# Altium footprint library 400236.PcbLib: 96 footprints (part 4 of 6)
Each footprint in its own frame and in the unit in brackets; x right, y up, seen from the top. Pads: shape width x height; smd on the part's side, far side on the other; paste and mask are expansions set on the pad; w line width, h text height; cw(c..) or ccw(c..) is an arc to the next point about the centre after c.
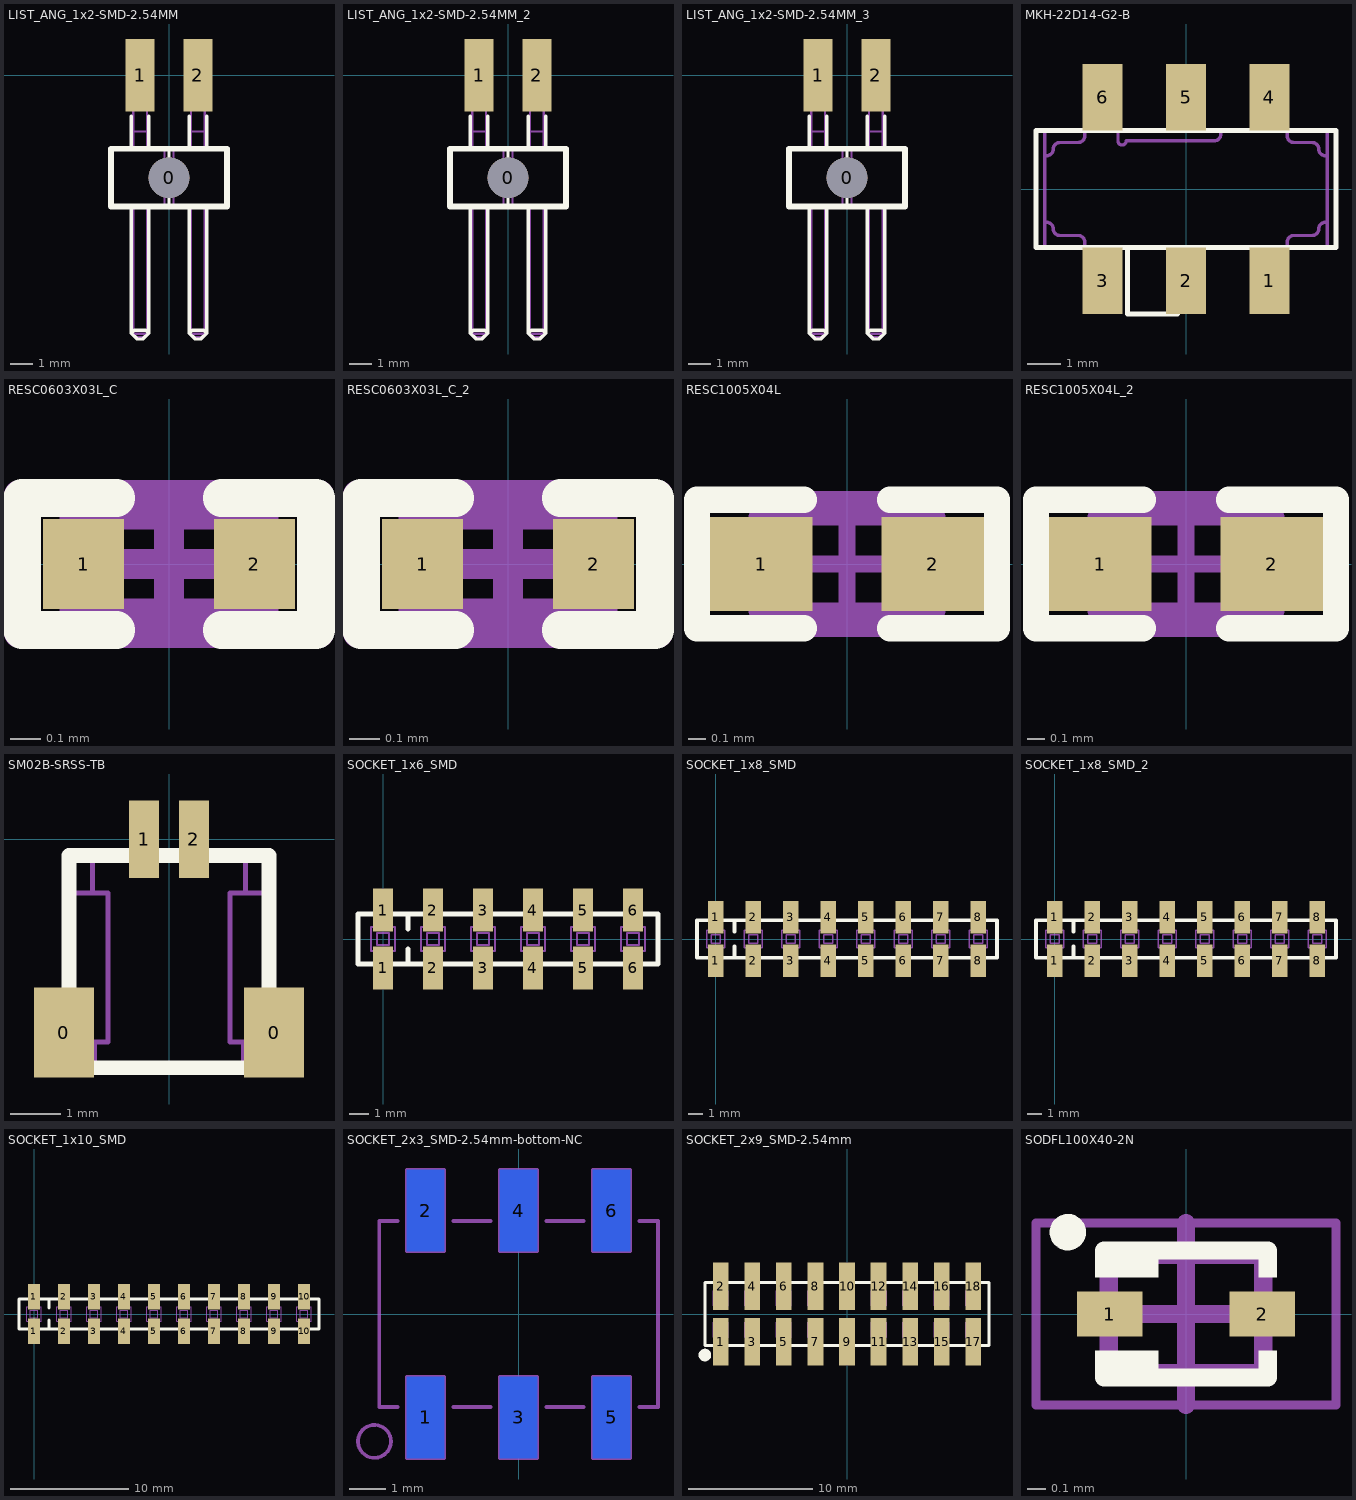
[diagram p3: the footprints below, top view; thin cyan lines are the x and y axes]

## LIST_ANG_1x2-SMD-2.54MM [mm]
pads (3):
  round 1.78 hole 1.78 unplated: 0(0,-4.496)
  rect 1.27x3.18 smd: 1(-1.27,0) 2(1.27,0)
Top Overlay:
  lines w0.15: -1.651,-5.766 -1.651,-11.324 ; -1.651,-3.226 -1.651,-1.8 ; -0.889,-5.766 -0.889,-11.324 ; -0.889,-3.226 -0.889,-1.8 ; 0,-5.766 0,-3.226 ; 0.889,-5.766 0.889,-11.324 ; 0.889,-3.226 0.889,-1.8 ; 1.651,-5.766 1.651,-11.324 ; 1.651,-3.226 1.651,-1.8 ; -1.651,-11.324 -1.524,-11.197 -1.016,-11.197 -0.889,-11.324 ; -1.651,-11.324 -1.397,-11.578 -1.143,-11.578 -0.889,-11.324 ; 0.889,-11.324 1.016,-11.197 1.524,-11.197 1.651,-11.324 ; 0.889,-11.324 1.143,-11.578 1.397,-11.578 1.651,-11.324
  lines w0.254: -2.54,-5.766 2.54,-5.766 2.54,-3.226 -2.54,-3.226 -2.54,-5.766
Mechanical 7:
  lines w0.1: -1.57,-5.766 -1.57,-11.347 ; -1.57,-3.226 -1.57,0.85 ; -1.57,-2.466 -0.97,-2.466 ; -1.57,-0.464 -0.97,-0.464 ; -0.97,-5.766 -0.97,-11.347 ; -0.97,-3.226 -0.97,0.85 ; -0.2,-5.766 -0.2,-3.226 ; 0.2,-5.766 0.2,-3.226 ; 0.97,-5.766 0.97,-11.347 ; 0.97,-3.226 0.97,0.85 ; 0.97,-2.466 1.57,-2.466 ; 0.97,-0.464 1.57,-0.464 ; 1.57,-5.766 1.57,-11.347 ; 1.57,-3.226 1.57,0.85 ; -1.57,-11.347 -1.42,-11.497 -1.12,-11.497 -0.97,-11.347 ; -1.57,-11.347 -0.97,-11.347 ; -1.57,0.85 -1.42,1 -1.12,1 -0.97,0.85 ; -1.57,0.85 -0.97,0.85 ; 0.97,-11.347 1.12,-11.497 1.42,-11.497 1.57,-11.347 ; 0.97,-11.347 1.57,-11.347 ; 0.97,0.85 1.12,1 1.42,1 1.57,0.85 ; 0.97,0.85 1.57,0.85 ; -2.54,-5.766 2.54,-5.766 2.54,-3.226 -2.54,-3.226 -2.54,-5.766
  text ".Designator" at -1.162,-4.852 h0.3
3D body "Samtec-TSM-102-01-L-SH-A.step": height 3.03, standoff -1.41, extent -2.56,-11.605 2.52,1.349

## LIST_ANG_1x2-SMD-2.54MM_2 [mm]
pads (3):
  round 1.78 hole 1.78 unplated: 0(0,-4.496)
  rect 1.27x3.18 smd: 1(-1.27,0) 2(1.27,0)
Top Overlay:
  lines w0.15: -1.651,-5.766 -1.651,-11.324 ; -1.651,-3.226 -1.651,-1.8 ; -0.889,-5.766 -0.889,-11.324 ; -0.889,-3.226 -0.889,-1.8 ; 0,-5.766 0,-3.226 ; 0.889,-5.766 0.889,-11.324 ; 0.889,-3.226 0.889,-1.8 ; 1.651,-5.766 1.651,-11.324 ; 1.651,-3.226 1.651,-1.8 ; -1.651,-11.324 -1.524,-11.197 -1.016,-11.197 -0.889,-11.324 ; -1.651,-11.324 -1.397,-11.578 -1.143,-11.578 -0.889,-11.324 ; 0.889,-11.324 1.016,-11.197 1.524,-11.197 1.651,-11.324 ; 0.889,-11.324 1.143,-11.578 1.397,-11.578 1.651,-11.324
  lines w0.254: -2.54,-5.766 2.54,-5.766 2.54,-3.226 -2.54,-3.226 -2.54,-5.766
Mechanical 7:
  lines w0.1: -1.57,-5.766 -1.57,-11.347 ; -1.57,-3.226 -1.57,0.85 ; -1.57,-2.466 -0.97,-2.466 ; -1.57,-0.464 -0.97,-0.464 ; -0.97,-5.766 -0.97,-11.347 ; -0.97,-3.226 -0.97,0.85 ; -0.2,-5.766 -0.2,-3.226 ; 0.2,-5.766 0.2,-3.226 ; 0.97,-5.766 0.97,-11.347 ; 0.97,-3.226 0.97,0.85 ; 0.97,-2.466 1.57,-2.466 ; 0.97,-0.464 1.57,-0.464 ; 1.57,-5.766 1.57,-11.347 ; 1.57,-3.226 1.57,0.85 ; -1.57,-11.347 -1.42,-11.497 -1.12,-11.497 -0.97,-11.347 ; -1.57,-11.347 -0.97,-11.347 ; -1.57,0.85 -1.42,1 -1.12,1 -0.97,0.85 ; -1.57,0.85 -0.97,0.85 ; 0.97,-11.347 1.12,-11.497 1.42,-11.497 1.57,-11.347 ; 0.97,-11.347 1.57,-11.347 ; 0.97,0.85 1.12,1 1.42,1 1.57,0.85 ; 0.97,0.85 1.57,0.85 ; -2.54,-5.766 2.54,-5.766 2.54,-3.226 -2.54,-3.226 -2.54,-5.766
  text ".Designator" at -1.162,-4.852 h0.3
3D body "Samtec-TSM-102-01-L-SH-A.step": height 3.03, standoff -1.41, extent -2.56,-11.605 2.52,1.349

## LIST_ANG_1x2-SMD-2.54MM_3 [mm]
pads (3):
  round 1.78 hole 1.78 unplated: 0(0,-4.496)
  rect 1.27x3.18 smd: 1(-1.27,0) 2(1.27,0)
Top Overlay:
  lines w0.15: -1.651,-5.766 -1.651,-11.324 ; -1.651,-3.226 -1.651,-1.8 ; -0.889,-5.766 -0.889,-11.324 ; -0.889,-3.226 -0.889,-1.8 ; 0,-5.766 0,-3.226 ; 0.889,-5.766 0.889,-11.324 ; 0.889,-3.226 0.889,-1.8 ; 1.651,-5.766 1.651,-11.324 ; 1.651,-3.226 1.651,-1.8 ; -1.651,-11.324 -1.524,-11.197 -1.016,-11.197 -0.889,-11.324 ; -1.651,-11.324 -1.397,-11.578 -1.143,-11.578 -0.889,-11.324 ; 0.889,-11.324 1.016,-11.197 1.524,-11.197 1.651,-11.324 ; 0.889,-11.324 1.143,-11.578 1.397,-11.578 1.651,-11.324
  lines w0.254: -2.54,-5.766 2.54,-5.766 2.54,-3.226 -2.54,-3.226 -2.54,-5.766
Mechanical 7:
  lines w0.1: -1.57,-5.766 -1.57,-11.347 ; -1.57,-3.226 -1.57,0.85 ; -1.57,-2.466 -0.97,-2.466 ; -1.57,-0.464 -0.97,-0.464 ; -0.97,-5.766 -0.97,-11.347 ; -0.97,-3.226 -0.97,0.85 ; -0.2,-5.766 -0.2,-3.226 ; 0.2,-5.766 0.2,-3.226 ; 0.97,-5.766 0.97,-11.347 ; 0.97,-3.226 0.97,0.85 ; 0.97,-2.466 1.57,-2.466 ; 0.97,-0.464 1.57,-0.464 ; 1.57,-5.766 1.57,-11.347 ; 1.57,-3.226 1.57,0.85 ; -1.57,-11.347 -1.42,-11.497 -1.12,-11.497 -0.97,-11.347 ; -1.57,-11.347 -0.97,-11.347 ; -1.57,0.85 -1.42,1 -1.12,1 -0.97,0.85 ; -1.57,0.85 -0.97,0.85 ; 0.97,-11.347 1.12,-11.497 1.42,-11.497 1.57,-11.347 ; 0.97,-11.347 1.57,-11.347 ; 0.97,0.85 1.12,1 1.42,1 1.57,0.85 ; 0.97,0.85 1.57,0.85 ; -2.54,-5.766 2.54,-5.766 2.54,-3.226 -2.54,-3.226 -2.54,-5.766
  text ".Designator" at -1.162,-4.852 h0.3
3D body "Samtec-TSM-102-01-L-SH-A.step": height 3.03, standoff -1.41, extent -2.56,-11.605 2.52,1.349

## MKH-22D14-G2-B [mm]
pads (6):
  rect 1.2x2 smd: 1(2.5,-2.75) 2(0,-2.75) 3(-2.5,-2.75) 4(2.5,2.75) 5(0,2.75) 6(-2.5,2.75)
Top Overlay:
  lines w0.152: -1.75,-1.75 -1.75,-3.75 -0.25,-3.75 -0.25,-1.75 ; -4.5,-1.75 4.5,-1.75 4.5,1.75 -4.5,1.75 -4.5,-1.75
Mechanical 7:
  lines w0.1: -4.233,-0.996 -4.183,-0.996 cw(c-4.185,-1.197) -3.984,-1.195 -3.984,-1.205 ccw(c-3.785,-1.195) -3.786,-1.394 ; -4.233,0.996 -4.183,0.996 ccw(c-4.185,1.197) -3.984,1.195 -3.984,1.205 cw(c-3.785,1.195) -3.786,1.395 ; -3.785,-1.394 -3.237,-1.394 cw(c-3.237,-1.594) -3.038,-1.593 -3.038,-1.743 ; -3.785,1.395 -3.237,1.395 ccw(c-3.237,1.594) -3.038,1.594 -3.038,1.743 ; -2.789,-1.743 -2.789,-2.49 -2.191,-2.49 -2.191,-1.743 ; -2.789,1.743 -2.789,2.49 -2.191,2.49 -2.191,1.743 ; -2.042,1.445 ccw(c-1.917,1.445) -1.793,1.444 0.846,1.445 ccw(c0.846,1.643) 1.045,1.644 1.045,1.743 ; -2.042,1.445 -2.042,1.743 ; -1.743,-1.743 -1.743,-3.735 -0.249,-3.735 -0.249,-1.743 ; -0.299,1.743 -0.299,2.49 0.299,2.49 0.299,1.743 ; -0.249,-2.49 0.299,-2.49 0.299,-1.743 ; 2.191,-1.743 2.191,-2.49 2.789,-2.49 2.789,-1.743 ; 2.191,1.743 2.191,2.49 2.789,2.49 2.789,1.743 ; 3.037,-1.743 3.037,-1.593 cw(c3.237,-1.594) 3.236,-1.394 3.784,-1.394 ccw(c3.784,-1.195) 3.983,-1.205 3.984,-1.195 cw(c4.185,-1.197) 4.183,-0.996 4.233,-0.996 ; 3.037,1.743 3.037,1.594 ccw(c3.237,1.594) 3.236,1.395 3.784,1.395 cw(c3.784,1.195) 3.983,1.205 3.984,1.195 ccw(c4.185,1.197) 4.183,0.996 4.233,0.996 ; -4.233,-1.743 -4.233,1.743 4.233,1.743 4.233,-1.743 -4.233,-1.743
  text ".Designator" at -0.408,-0.206 h0.3
3D body "CL-SB-22B-11T.stp": height 3.5, standoff 0, extent -4.25,-3.75 4.25,2.5

## RESC0603X03L_C [mm]
pads (2):
  rect 0.27x0.3 smd: 1(-0.285,0) 2(0.285,0)
Top Overlay:
  lines w0.125: -0.175,-0.22 -0.49,-0.22 -0.49,0.22 -0.175,0.22 ; 0.175,-0.22 0.49,-0.22 0.49,0.22 0.175,0.22
Mechanical 7:
  lines w0.1: -0.315,-0.165 -0.315,0.165 0.315,0.165 0.315,-0.165 -0.315,-0.165
  text ".Designator" at -0.306,0.268 h0.3
Mechanical 15:
  lines w0.1: -0.165,0 0.165,0 ; 0,-0.165 0,0.165 ; -0.5,-0.23 -0.5,0.23 0.5,0.23 0.5,-0.23 -0.5,-0.23
3D body "User Library-res0201-1.step": height 0.23, standoff 0, extent -0.3,-0.15 0.3,0.15

## RESC0603X03L_C_2 [mm]
pads (2):
  rect 0.27x0.3 smd: 1(-0.285,0) 2(0.285,0)
Top Overlay:
  lines w0.125: -0.175,-0.22 -0.49,-0.22 -0.49,0.22 -0.175,0.22 ; 0.175,-0.22 0.49,-0.22 0.49,0.22 0.175,0.22
Mechanical 7:
  lines w0.1: -0.315,-0.165 0.315,-0.165 0.315,0.165 -0.315,0.165 -0.315,-0.165
  text ".Designator" at -0.306,0.268 h0.3
Mechanical 15:
  lines w0.1: -0.165,0 0.165,0 ; 0,-0.165 0,0.165 ; -0.5,-0.23 -0.5,0.23 0.5,0.23 0.5,-0.23 -0.5,-0.23
3D body "User Library-res0201-1.step": height 0.23, standoff 0, extent -0.3,-0.15 0.3,0.15

## RESC1005X04L [mm]
pads (2):
  rect 0.6x0.55 smd: 1(-0.5,0) 2(0.5,0)
Top Overlay:
  lines w0.152: -0.25,-0.375 -0.875,-0.375 -0.875,0.375 -0.25,0.375 ; 0.25,-0.375 0.875,-0.375 0.875,0.375 0.25,0.375
Mechanical 7:
  lines w0.1: -0.525,-0.275 0.525,-0.275 0.525,0.275 -0.525,0.275 -0.525,-0.275
  text ".Designator" at -0.349,-0.157 h0.3
Mechanical 15:
  lines w0.1: -0.275,0 0.275,0 ; 0,-0.275 0,0.275 ; -0.875,-0.375 -0.875,0.375 0.875,0.375 0.875,-0.375 -0.875,-0.375
3D body "User Library-res0402-1.step": height 0.3, standoff 0, extent -0.5,-0.25 0.5,0.25

## RESC1005X04L_2 [mm]
pads (2):
  rect 0.6x0.55 smd: 1(-0.5,0) 2(0.5,0)
Top Overlay:
  lines w0.152: -0.25,-0.375 -0.875,-0.375 -0.875,0.375 -0.25,0.375 ; 0.25,-0.375 0.875,-0.375 0.875,0.375 0.25,0.375
Mechanical 7:
  lines w0.1: -0.525,-0.275 0.525,-0.275 0.525,0.275 -0.525,0.275 -0.525,-0.275
  text ".Designator" at -0.4,-0.157 h0.3
Mechanical 15:
  lines w0.1: -0.275,0 0.275,0 ; 0,-0.275 0,0.275 ; -0.875,-0.375 -0.875,0.375 0.875,0.375 0.875,-0.375 -0.875,-0.375
3D body "User Library-res0402-1.step": height 0.3, standoff 0, extent -0.5,-0.25 0.5,0.25

## SM02B-SRSS-TB [mm]
pads (4):
  rect 1.2x1.8 smd: 0(-2.1,-3.875) 0(2.1,-3.875)
  rect 0.6x1.55 smd: 1(-0.5,0) 2(0.5,0)
Top Overlay:
  lines w0.3: -2,-4.575 2,-4.575 2,-0.325 -2,-0.325 -2,-4.575
Mechanical 7:
  lines w0.1: -2,-1.084 -1.527,-1.084 ; -1.527,-0.325 -1.527,-1.084 ; -1.489,-4.575 -1.489,-4.058 -1.216,-4.058 -1.216,-1.084 -1.527,-1.084 ; -0.652,-0.325 -0.652,0.164 cw(c-0.502,0.164) -0.352,0.164 -0.352,-0.325 ; 0.347,-0.325 0.347,0.164 cw(c0.497,0.164) 0.647,0.164 0.647,-0.325 ; 1.489,-4.575 1.489,-4.058 1.216,-4.058 1.216,-1.084 1.527,-1.084 ; 1.527,-0.325 1.527,-1.084 ; 2,-1.084 1.527,-1.084 ; -2,-4.575 2,-4.575 2,-0.325 -2,-0.325 -2,-4.575
  text ".Designator" at 0.237,-2.416 h0.3
3D body "JST_SM02B-SRSS-TB.step": height 3, standoff 0, extent -1.994,-4.575 1.994,0.412

## SOCKET_1x6_SMD [mm]
pads (12):
  rect 1.02x2.19 smd: 1(0,-1.465) 1(0,1.465) 2(2.54,-1.465) 2(2.54,1.465) 3(5.08,-1.465) 3(5.08,1.465) 4(7.62,-1.465) 4(7.62,1.465) 5(10.16,-1.465) 5(10.16,1.465) 6(12.7,1.465) 6(12.7,-1.465)
Top Overlay:
  lines w0.254: 1.27,-1.27 1.27,-0.508 ; 1.27,0.508 1.27,1.27 ; -1.27,-1.27 -1.27,1.27 13.97,1.27 13.97,-1.27 -1.27,-1.27
Mechanical 7:
  lines w0.1: -0.35,-1.27 -0.35,-1.812 ccw(c0,-1.812) 0.35,-1.812 0.35,-1.27 ; 2.19,1.27 2.19,1.812 cw(c2.54,1.812) 2.89,1.812 2.89,1.27 ; 4.73,-1.27 4.73,-1.812 ccw(c5.08,-1.812) 5.43,-1.812 5.43,-1.27 ; 7.27,1.27 7.27,1.812 cw(c7.62,1.812) 7.97,1.812 7.97,1.27 ; 9.81,-1.27 9.81,-1.812 ccw(c10.16,-1.812) 10.51,-1.812 10.51,-1.27 ; 12.35,1.27 12.35,1.812 cw(c12.7,1.812) 13.05,1.812 13.05,1.27 ; -1.27,-1.27 13.97,-1.27 13.97,1.27 -1.27,1.27 -1.27,-1.27 ; -0.6,-0.6 0.6,-0.6 0.6,0.6 -0.6,0.6 -0.6,-0.6 ; -0.3,-0.3 0.3,-0.3 0.3,0.3 -0.3,0.3 -0.3,-0.3 ; 1.94,-0.6 3.14,-0.6 3.14,0.6 1.94,0.6 1.94,-0.6 ; 2.24,-0.3 2.84,-0.3 2.84,0.3 2.24,0.3 2.24,-0.3 ; 4.48,-0.6 5.68,-0.6 5.68,0.6 4.48,0.6 4.48,-0.6 ; 4.78,-0.3 5.38,-0.3 5.38,0.3 4.78,0.3 4.78,-0.3 ; 7.02,-0.6 8.22,-0.6 8.22,0.6 7.02,0.6 7.02,-0.6 ; 7.32,-0.3 7.92,-0.3 7.92,0.3 7.32,0.3 7.32,-0.3 ; 9.56,-0.6 10.76,-0.6 10.76,0.6 9.56,0.6 9.56,-0.6 ; 9.86,-0.3 10.46,-0.3 10.46,0.3 9.86,0.3 9.86,-0.3 ; 12.1,-0.6 13.3,-0.6 13.3,0.6 12.1,0.6 12.1,-0.6 ; 12.4,-0.3 13,-0.3 13,0.3 12.4,0.3 12.4,-0.3
  text ".Designator" at 0.77,-0.2 h0.3
3D body "Samtec-SSM-106-L-SV.step": height 7.47, standoff -0.03, extent -1.27,-2.286 13.97,2.286

## SOCKET_1x8_SMD [mm]
pads (16):
  rect 1.02x2.19 smd: 1(0,-1.465) 1(0,1.465) 2(2.54,-1.465) 2(2.54,1.465) 3(5.08,-1.465) 3(5.08,1.465) 4(7.62,-1.465) 4(7.62,1.465) 5(10.16,-1.465) 5(10.16,1.465) 6(12.7,1.465) 6(12.7,-1.465) 7(15.24,-1.465) 7(15.24,1.465) 8(17.78,-1.465) 8(17.78,1.465)
Top Overlay:
  lines w0.254: 1.27,-1.27 1.27,-0.508 ; 1.27,0.508 1.27,1.27 ; -1.27,-1.27 -1.27,1.27 19.05,1.27 19.05,-1.27 -1.27,-1.27
Mechanical 7:
  lines w0.1: -0.35,-1.27 -0.35,-1.812 ccw(c0,-1.812) 0.35,-1.812 0.35,-1.27 ; 2.19,1.27 2.19,1.812 cw(c2.54,1.812) 2.89,1.812 2.89,1.27 ; 4.73,-1.27 4.73,-1.812 ccw(c5.08,-1.812) 5.43,-1.812 5.43,-1.27 ; 7.27,1.27 7.27,1.812 cw(c7.62,1.812) 7.97,1.812 7.97,1.27 ; 9.81,-1.27 9.81,-1.812 ccw(c10.16,-1.812) 10.51,-1.812 10.51,-1.27 ; 12.35,1.27 12.35,1.812 cw(c12.7,1.812) 13.05,1.812 13.05,1.27 ; 14.89,-1.27 14.89,-1.812 ccw(c15.24,-1.812) 15.59,-1.812 15.59,-1.27 ; 17.43,1.27 17.43,1.812 cw(c17.78,1.812) 18.13,1.812 18.13,1.27 ; -1.27,-1.27 -1.27,1.27 19.05,1.27 19.05,-1.27 -1.27,-1.27 ; -0.6,-0.6 -0.6,0.6 0.6,0.6 0.6,-0.6 -0.6,-0.6 ; -0.3,-0.3 -0.3,0.3 0.3,0.3 0.3,-0.3 -0.3,-0.3 ; 1.94,-0.6 1.94,0.6 3.14,0.6 3.14,-0.6 1.94,-0.6 ; 2.24,-0.3 2.24,0.3 2.84,0.3 2.84,-0.3 2.24,-0.3 ; 4.48,-0.6 4.48,0.6 5.68,0.6 5.68,-0.6 4.48,-0.6 ; 4.78,-0.3 4.78,0.3 5.38,0.3 5.38,-0.3 4.78,-0.3 ; 7.02,-0.6 7.02,0.6 8.22,0.6 8.22,-0.6 7.02,-0.6 ; 7.32,-0.3 7.32,0.3 7.92,0.3 7.92,-0.3 7.32,-0.3 ; 9.56,-0.6 9.56,0.6 10.76,0.6 10.76,-0.6 9.56,-0.6 ; 9.86,-0.3 9.86,0.3 10.46,0.3 10.46,-0.3 9.86,-0.3 ; 12.1,-0.6 12.1,0.6 13.3,0.6 13.3,-0.6 12.1,-0.6 ; 12.4,-0.3 12.4,0.3 13,0.3 13,-0.3 12.4,-0.3 ; 14.64,-0.6 14.64,0.6 15.84,0.6 15.84,-0.6 14.64,-0.6 ; 14.94,-0.3 14.94,0.3 15.54,0.3 15.54,-0.3 14.94,-0.3 ; 17.18,-0.6 17.18,0.6 18.38,0.6 18.38,-0.6 17.18,-0.6 ; 17.48,-0.3 17.48,0.3 18.08,0.3 18.08,-0.3 17.48,-0.3
  text ".Designator" at 0.77,-0.2 h0.3
3D body "Samtec-SSM-108-L-SV.step": height 7.47, standoff -0.03, extent -1.27,-2.286 19.05,2.286

## SOCKET_1x8_SMD_2 [mm]
pads (16):
  rect 1.02x2.19 smd: 1(0,-1.465) 1(0,1.465) 2(2.54,-1.465) 2(2.54,1.465) 3(5.08,-1.465) 3(5.08,1.465) 4(7.62,-1.465) 4(7.62,1.465) 5(10.16,-1.465) 5(10.16,1.465) 6(12.7,1.465) 6(12.7,-1.465) 7(15.24,-1.465) 7(15.24,1.465) 8(17.78,-1.465) 8(17.78,1.465)
Top Overlay:
  lines w0.254: 1.27,-1.27 1.27,-0.508 ; 1.27,0.508 1.27,1.27 ; -1.27,-1.27 -1.27,1.27 19.05,1.27 19.05,-1.27 -1.27,-1.27
Mechanical 7:
  lines w0.1: -0.35,-1.27 -0.35,-1.812 ccw(c0,-1.812) 0.35,-1.812 0.35,-1.27 ; 2.19,1.27 2.19,1.812 cw(c2.54,1.812) 2.89,1.812 2.89,1.27 ; 4.73,-1.27 4.73,-1.812 ccw(c5.08,-1.812) 5.43,-1.812 5.43,-1.27 ; 7.27,1.27 7.27,1.812 cw(c7.62,1.812) 7.97,1.812 7.97,1.27 ; 9.81,-1.27 9.81,-1.812 ccw(c10.16,-1.812) 10.51,-1.812 10.51,-1.27 ; 12.35,1.27 12.35,1.812 cw(c12.7,1.812) 13.05,1.812 13.05,1.27 ; 14.89,-1.27 14.89,-1.812 ccw(c15.24,-1.812) 15.59,-1.812 15.59,-1.27 ; 17.43,1.27 17.43,1.812 cw(c17.78,1.812) 18.13,1.812 18.13,1.27 ; -1.27,-1.27 -1.27,1.27 19.05,1.27 19.05,-1.27 -1.27,-1.27 ; -0.6,-0.6 -0.6,0.6 0.6,0.6 0.6,-0.6 -0.6,-0.6 ; -0.3,-0.3 -0.3,0.3 0.3,0.3 0.3,-0.3 -0.3,-0.3 ; 1.94,-0.6 1.94,0.6 3.14,0.6 3.14,-0.6 1.94,-0.6 ; 2.24,-0.3 2.24,0.3 2.84,0.3 2.84,-0.3 2.24,-0.3 ; 4.48,-0.6 4.48,0.6 5.68,0.6 5.68,-0.6 4.48,-0.6 ; 4.78,-0.3 4.78,0.3 5.38,0.3 5.38,-0.3 4.78,-0.3 ; 7.02,-0.6 7.02,0.6 8.22,0.6 8.22,-0.6 7.02,-0.6 ; 7.32,-0.3 7.32,0.3 7.92,0.3 7.92,-0.3 7.32,-0.3 ; 9.56,-0.6 9.56,0.6 10.76,0.6 10.76,-0.6 9.56,-0.6 ; 9.86,-0.3 9.86,0.3 10.46,0.3 10.46,-0.3 9.86,-0.3 ; 12.1,-0.6 12.1,0.6 13.3,0.6 13.3,-0.6 12.1,-0.6 ; 12.4,-0.3 12.4,0.3 13,0.3 13,-0.3 12.4,-0.3 ; 14.64,-0.6 14.64,0.6 15.84,0.6 15.84,-0.6 14.64,-0.6 ; 14.94,-0.3 14.94,0.3 15.54,0.3 15.54,-0.3 14.94,-0.3 ; 17.18,-0.6 17.18,0.6 18.38,0.6 18.38,-0.6 17.18,-0.6 ; 17.48,-0.3 17.48,0.3 18.08,0.3 18.08,-0.3 17.48,-0.3
  text ".Designator" at 1.507,0.13 h0.3
3D body "Samtec-SSM-108-L-SV.step": height 7.47, standoff -0.03, extent -1.27,-2.286 19.05,2.286

## SOCKET_1x10_SMD [mm]
pads (20):
  rect 1.02x2.19 smd: 1(0,-1.465) 1(0,1.465) 2(2.54,-1.465) 2(2.54,1.465) 3(5.08,-1.465) 3(5.08,1.465) 4(7.62,-1.465) 4(7.62,1.465) 5(10.16,-1.465) 5(10.16,1.465) 6(12.7,-1.465) 6(12.7,1.465) 7(15.24,-1.465) 7(15.24,1.465) 8(17.78,-1.465) 8(17.78,1.465) 9(20.32,-1.465) 9(20.32,1.465) 10(22.86,-1.465) 10(22.86,1.465)
Top Overlay:
  lines w0.254: 1.27,-1.27 1.27,-0.508 ; 1.27,0.508 1.27,1.27 ; -1.27,-1.27 -1.27,1.27 24.13,1.27 24.13,-1.27 -1.27,-1.27
Mechanical 7:
  lines w0.1: -0.35,-1.27 -0.35,-1.812 ccw(c0,-1.812) 0.35,-1.812 0.35,-1.27 ; 2.19,1.27 2.19,1.812 cw(c2.54,1.812) 2.89,1.812 2.89,1.27 ; 4.73,-1.27 4.73,-1.812 ccw(c5.08,-1.812) 5.43,-1.812 5.43,-1.27 ; 7.27,1.27 7.27,1.812 cw(c7.62,1.812) 7.97,1.812 7.97,1.27 ; 9.81,-1.27 9.81,-1.812 ccw(c10.16,-1.812) 10.51,-1.812 10.51,-1.27 ; 12.35,1.27 12.35,1.812 cw(c12.7,1.812) 13.05,1.812 13.05,1.27 ; 14.89,-1.27 14.89,-1.812 ccw(c15.24,-1.812) 15.59,-1.812 15.59,-1.27 ; 17.43,1.27 17.43,1.812 cw(c17.78,1.812) 18.13,1.812 18.13,1.27 ; 19.97,-1.27 19.97,-1.812 ccw(c20.32,-1.812) 20.67,-1.812 20.67,-1.27 ; 22.51,1.27 22.51,1.812 cw(c22.86,1.812) 23.21,1.812 23.21,1.27 ; -1.27,-1.27 24.13,-1.27 24.13,1.27 -1.27,1.27 -1.27,-1.27 ; -0.6,-0.6 0.6,-0.6 0.6,0.6 -0.6,0.6 -0.6,-0.6 ; -0.3,-0.3 0.3,-0.3 0.3,0.3 -0.3,0.3 -0.3,-0.3 ; 1.94,-0.6 3.14,-0.6 3.14,0.6 1.94,0.6 1.94,-0.6 ; 2.24,-0.3 2.84,-0.3 2.84,0.3 2.24,0.3 2.24,-0.3 ; 4.48,-0.6 5.68,-0.6 5.68,0.6 4.48,0.6 4.48,-0.6 ; 4.78,-0.3 5.38,-0.3 5.38,0.3 4.78,0.3 4.78,-0.3 ; 7.02,-0.6 8.22,-0.6 8.22,0.6 7.02,0.6 7.02,-0.6 ; 7.32,-0.3 7.92,-0.3 7.92,0.3 7.32,0.3 7.32,-0.3 ; 9.56,-0.6 10.76,-0.6 10.76,0.6 9.56,0.6 9.56,-0.6 ; 9.86,-0.3 10.46,-0.3 10.46,0.3 9.86,0.3 9.86,-0.3 ; 12.1,-0.6 13.3,-0.6 13.3,0.6 12.1,0.6 12.1,-0.6 ; 12.4,-0.3 13,-0.3 13,0.3 12.4,0.3 12.4,-0.3 ; 14.64,-0.6 15.84,-0.6 15.84,0.6 14.64,0.6 14.64,-0.6 ; 14.94,-0.3 15.54,-0.3 15.54,0.3 14.94,0.3 14.94,-0.3 ; 17.18,-0.6 18.38,-0.6 18.38,0.6 17.18,0.6 17.18,-0.6 ; 17.48,-0.3 18.08,-0.3 18.08,0.3 17.48,0.3 17.48,-0.3 ; 19.72,-0.6 20.92,-0.6 20.92,0.6 19.72,0.6 19.72,-0.6 ; 20.02,-0.3 20.62,-0.3 20.62,0.3 20.02,0.3 20.02,-0.3 ; 22.26,-0.6 23.46,-0.6 23.46,0.6 22.26,0.6 22.26,-0.6 ; 22.56,-0.3 23.16,-0.3 23.16,0.3 22.56,0.3 22.56,-0.3
  text ".Designator" at 1.507,0.13 h0.3
3D body "Samtec-SSM-110-L-SV.step": height 7.47, standoff -0.03, extent -1.27,-2.286 24.13,2.286

## SOCKET_2x3_SMD-2.54mm-bottom-NC [mm]
pads (6):
  rect 1.02x2.22 smd far side: 1(-2.54,-2.825) 2(-2.54,2.825) 3(0,-2.825) 4(0,2.825) 5(2.54,-2.825) 6(2.54,2.825)
Bottom Overlay:
  circle w0.508: c-3.936,-3.48 r0.254
  lines w0.254: -3.33,-2.54 -3.81,-2.54 -3.81,2.54 -3.33,2.54 ; -1.77,-2.54 -0.78,-2.54 ; -1.77,2.54 -0.78,2.54 ; 0.78,-2.54 1.77,-2.54 ; 0.78,2.54 1.77,2.54 ; 3.33,-2.54 3.81,-2.54 3.81,2.54 3.33,2.54
Mechanical 8:
  circle w0.1: c-3.936,-3.48 r0.45
  lines w0.1: -3.302,-2.54 -3.81,-2.54 -3.81,2.54 -3.302,2.54 ; -1.778,-2.54 -0.762,-2.54 ; -1.778,2.54 -0.762,2.54 ; 0.762,-2.54 1.778,-2.54 ; 0.762,2.54 1.778,2.54 ; 3.302,-2.54 3.81,-2.54 3.81,2.54 3.302,2.54 ; -3.05,-3.935 -2.03,-3.935 -2.03,-1.715 -3.05,-1.715 -3.05,-3.935 ; -3.05,1.715 -3.05,3.935 -2.03,3.935 -2.03,1.715 -3.05,1.715 ; -0.51,-3.935 0.51,-3.935 0.51,-1.715 -0.51,-1.715 -0.51,-3.935 ; -0.51,1.715 0.51,1.715 0.51,3.935 -0.51,3.935 -0.51,1.715 ; 2.03,-3.935 3.05,-3.935 3.05,-1.715 2.03,-1.715 2.03,-3.935 ; 2.03,1.715 3.05,1.715 3.05,3.935 2.03,3.935 2.03,1.715
  text ".Designator" at -3.226,0.178 h0.38

## SOCKET_2x9_SMD-2.54mm [mil]
pads (18):
  rect 50x150 smd: 1(-400,-87.5) 2(-400,87.5) 3(-300,-87.5) 4(-300,87.5) 5(-200,-87.5) 6(-200,87.5) 7(-100,-87.5) 8(-100,87.5) 9(0,-87.5) 10(0,87.5) 11(100,-87.5) 12(100,87.5) 13(200,-87.5) 14(200,87.5) 15(300,-87.5) 16(300,87.5) 17(400,-87.5) 18(400,87.5)
Top Overlay:
  circle w20: c-450,-130 r10
  lines w10: -450,-100 -450,100 450,100 450,-100 -450,-100
Mechanical 7:
  drawing of 202 lines, arcs and shapes, not listed
  text ".Designator" at -346,-19 h12
3D body "Samtec-SSM-109-F-DV.step": height 290, standoff -2, extent -449.99,-138.49 450.01,138.51

## SODFL100X40-2N [mm]
pads (2):
  rect 0.36x0.25 smd: 1(-0.42,0) 2(0.42,0)
Top Overlay:
  circle w0.1: c-0.65,0.45 r0.05
  rectangle: -0.5,0.2 -0.15,0.325
  rectangle: -0.5,-0.35 -0.15,-0.2
  rectangle: 0.4,-0.35 0.5,-0.2
  rectangle: 0.4,0.2 0.5,0.35
  lines w0.1: -0.45,-0.3 -0.45,-0.35 0.45,-0.35 0.45,-0.3 ; -0.45,0.3 -0.45,0.35 0.45,0.35 0.45,0.3
Mechanical 7:
  lines w0.1: -0.425,-0.325 0.425,-0.325 0.425,0.325 -0.425,0.325 -0.425,-0.325
  text ".Designator" at -0.327,-0.152 h0.3
Mechanical 15:
  lines w0.05: -0.825,-0.5 -0.825,0.5 0.825,0.5 0.825,-0.5 -0.825,-0.5
  lines w0.1: -0.5,0 0.5,0 ; 0,-0.5 0,0.5
3D body "SODFL100X40-2N.step": height 0.4, standoff 0, extent -0.5,-0.325 0.5,0.325